# Altium schematic symbol library кнопки.SchLib: 6 symbols
Pins are listed as number, name and electrical type; pins without a type are passive.

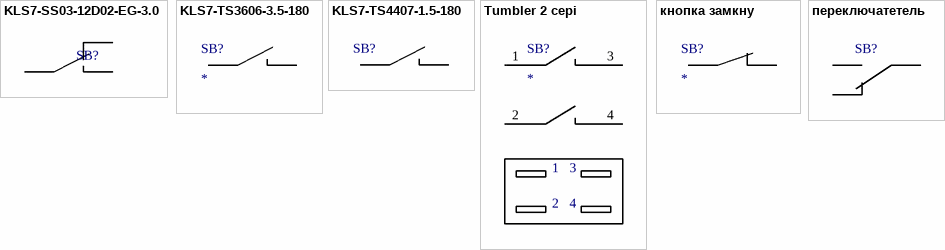
[diagram p0: symbols KLS7-SS03-12D02-EG-3.0 to переключатетель]

## KLS7-SS03-12D02-EG-3.0
designator SB?  (value not drawn)
footprint KLS7-SS03-12D02-EG-3.0
pins: 1 26, 2 25, 3 26

## KLS7-TS3606-3.5-180
designator SB?
footprint KLS7-TS3606-3.5-180
pins: 1 25, 2 26

## KLS7-TS4407-1.5-180
designator SB?  (value not drawn)
footprint PCBComponent_1
pins: 1 25, 2 26

## Tumbler 2 cepi
designator SB?
pins: 1 15, 2 17, 3 16, 4 18

## кнопка замкну
designator SB?
pins: 1 25, 2 26

## переключатетель
designator SB?  (value not drawn)
footprint геркон МКС-17103
footprint ГЕРКОН МКС-14104
pins: 1, 2, 3